# Altium schematic symbol library MC_MechPart_No_BOM.SchLib: 1 symbol
Pins are listed as number, name and electrical type; pins without a type are passive.

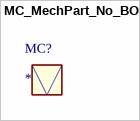
[diagram p0: symbol MC_MechPart_No_BOM]

## MC_MechPart_No_BOM
designator MC?  (no BOM)